# Altium schematic symbol library MMBT5551.Schlib: 1 symbol
Pins are listed as number, name and electrical type; pins without a type are passive.

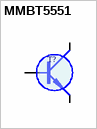
[diagram p0: symbol MMBT5551]

## MMBT5551
designator T?
SOT23   160V 0.6A 100MHz 6p(10V) (MMBT5401)
pins: 1 B, 2 E (oe), 3 C (oc)
1 alternate drawing of the same symbol